# EAGLE library part MCP2515 (library IC, STM and CAN parts)
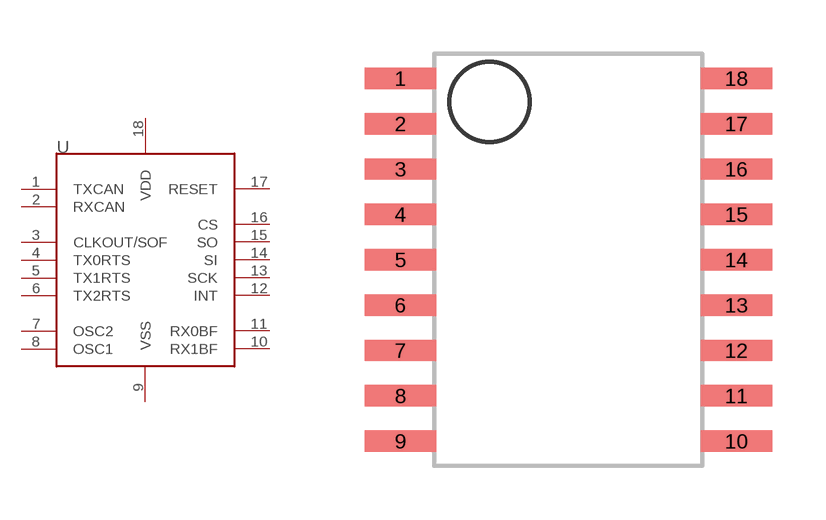
[diagram p0: symbol with the pads of SOIC-18; footprint SOIC-18]

Designator prefix -

## MCP2515  [SOIC-18]
1  TXCAN
2  RXCAN
3  CLKOUT/SOF
4  TX0RTS
5  TX1RTS
6  TX2RTS
7  OSC2
8  OSC1
9  VSS
10  RX1BF
11  RX0BF
12  INT
13  SCK
14  SI
15  SO
16  CS
17  RESET
18  VDD

## Footprint SOIC-18 (pad centres in mm)
smd 2 x 0.6: 1 0,10.16; 2 0,8.89; 3 0,7.62; 4 0,6.35; 5 0,5.08; 6 0,3.81; 7 0,2.54; 8 0,1.27; 9 0,0; 10 9.4,0; 11 9.4,1.27; 12 9.4,2.54; 13 9.4,3.81; 14 9.4,5.08; 15 9.4,6.35; 16 9.4,7.62; 17 9.4,8.89; 18 9.4,10.16